# Altium footprint library Diode_SS34-E3_9AT.PcbLib: 3 footprints
Each footprint in its own frame and in the unit in brackets; x right, y up, seen from the top. Pads: shape width x height; smd on the part's side, far side on the other; paste and mask are expansions set on the pad; w line width, h text height; cw(c..) or ccw(c..) is an arc to the next point about the centre after c.
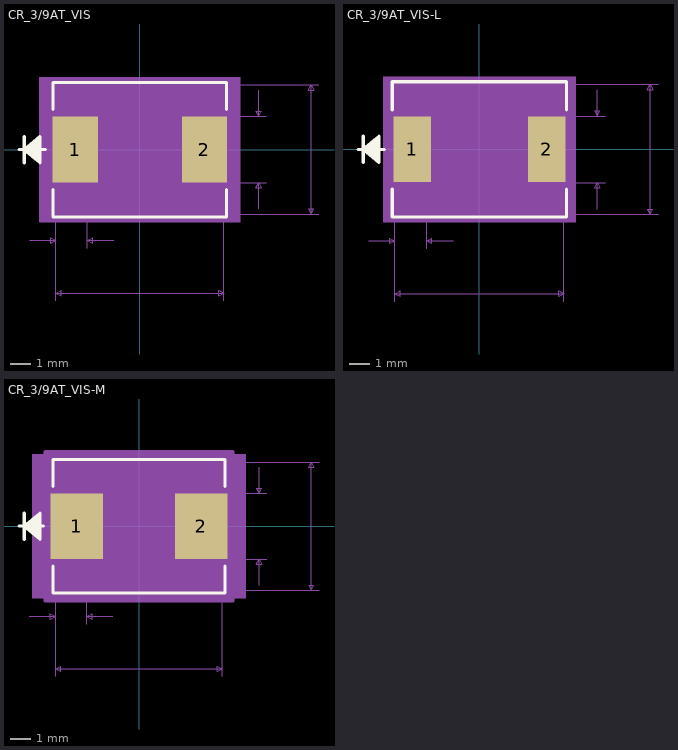
[diagram p0: the footprints below, top view; thin cyan lines are the x and y axes]

## CR_3/9AT_VIS [mil]
pads (2):
  rect 86x126 smd paste+0 mask+0: 1(-123,0) 2(123,0)
Top Overlay:
  lines w6: -230,0 -180,0 ; -220,-25 -220,25 ; -190,-20 -220,0 ; -190,-15 -220,0 ; -190,-10 -220,0 ; -190,-5 -220,0 ; -190,5 -220,0 ; -190,10 -220,0 ; -190,15 -220,0 ; -190,20 -220,0 ; -165,-76.1 -165,-128 165,-128 165,-76.1 ; -165,76.1 -165,128 165,128 165,76.1 ; -220,0 -190,-25 -190,25 -220,0
Mechanical 5:
  region: 191,-138 -191,-138 -191,138 191,138
Mechanical 7:
  lines w1: -210,-173 -160,-173 ; -160,-288 -160,0 -160,-188 ; -100,-188 -100,0 ; -50,-173 -100,-173 ; 160,-288 160,0 ; 176,-123 341,-123 ; 176,-63 241,-63 ; 176,63 241,63 ; 176,123 341,123 ; 226,-113 226,-63 ; 226,113 226,63 ; -160,-273 -150,-278 -150,-268 -160,-273 ; -160,-273 160,-273 ; -160,-173 -170,-178 -170,-168 -160,-173 ; -100,-173 -90,-178 -90,-168 -100,-173 ; 160,-273 150,-278 150,-268 160,-273 ; 226,-63 231,-73 221,-73 226,-63 ; 226,63 231,73 221,73 226,63 ; 326,-123 331,-113 321,-113 326,-123 ; 326,-123 326,123 ; 326,123 331,113 321,113 326,123
  text "0.06in/1.524mm" at -217.5,-218 h25
  text "0.32in/8.128mm" at -87.5,-318 h25
  text "0.246in/6.248mm" at 346,-12.5 h25
  text "0.126in/3.2mm" at 246,-12.5 h25
  text "Alt 2 Padstyle: OX90Y60D30P" at -337.5,-548 h50
  text "Alt 1 Padstyle: OX60Y90D30P" at -337.5,-473 h50
  text "Default Padstyle: RX86Y126D0T" at -362.5,-398 h50
Mechanical 13:
  lines w1: -230,0 -180,0 ; -220,-25 -220,25 ; -190,-20 -220,0 ; -190,-15 -220,0 ; -190,-10 -220,0 ; -190,-5 -220,0 ; -190,5 -220,0 ; -190,10 -220,0 ; -190,15 -220,0 ; -190,20 -220,0 ; -220,0 -190,-25 -190,25 -220,0 ; -160,-123 -160,123 160,123 160,-123 -160,-123
Mechanical 15:
  region: -170,-73 -176,-73 -176,73 -170,73 -170,133 170,133 170,73 176,73 176,-73 170,-73 170,-133 -170,-133
  lines w6: -176,-73 -170,-73 -170,-133 170,-133 170,-73 176,-73 176,73 170,73 170,133 -170,133 -170,73 -176,73 -176,-73
3D body "CR_39AT_VIS.step": height 105, standoff 0, extent -160,-122.99 160,122.99
3D body: height 10, standoff 0, extent 0,0 10,10

## CR_3/9AT_VIS-L [mil]
pads (2):
  rect 71x124 smd paste+0 mask+0: 1(-127.5,0) 2(127.5,0)
Top Overlay:
  lines w6: -230,0 -180,0 ; -220,-25 -220,25 ; -190,-20 -220,0 ; -190,-15 -220,0 ; -190,-10 -220,0 ; -190,-5 -220,0 ; -190,5 -220,0 ; -190,10 -220,0 ; -190,15 -220,0 ; -190,20 -220,0 ; -165,-74.95 -165,-128 165,-128 165,-74.95 ; -165,74.95 -165,128 165,128 165,74.95 ; -220,0 -190,-25 -190,25 -220,0
Mechanical 5:
  region: 182,-138 -182,-138 -182,138 182,138
Mechanical 7:
  lines w1: -210,-173 -160,-173 ; -160,-288 -160,0 -160,-188 ; -100,-188 -100,0 ; -50,-173 -100,-173 ; 160,-288 160,0 ; 173,-123 338,-123 ; 173,-63 238,-63 ; 173,63 238,63 ; 173,123 338,123 ; 223,-113 223,-63 ; 223,113 223,63 ; -160,-273 -150,-278 -150,-268 -160,-273 ; -160,-273 160,-273 ; -160,-173 -170,-178 -170,-168 -160,-173 ; -100,-173 -90,-178 -90,-168 -100,-173 ; 160,-273 150,-278 150,-268 160,-273 ; 223,-63 228,-73 218,-73 223,-63 ; 223,63 228,73 218,73 223,63 ; 323,-123 328,-113 318,-113 323,-123 ; 323,-123 323,123 ; 323,123 328,113 318,113 323,123
  text "0.06in/1.524mm" at -217.5,-218 h25
  text "0.32in/8.128mm" at -87.5,-318 h25
  text "0.246in/6.248mm" at 343,-12.5 h25
  text "0.126in/3.2mm" at 243,-12.5 h25
  text "Alt 2 Padstyle: OX90Y60D30P" at -337.5,-548 h50
  text "Alt 1 Padstyle: OX60Y90D30P" at -337.5,-473 h50
  text "Default Padstyle: RX71Y124D0T" at -362.5,-398 h50
Mechanical 13:
  lines w1: -230,0 -180,0 ; -220,-25 -220,25 ; -190,-20 -220,0 ; -190,-15 -220,0 ; -190,-10 -220,0 ; -190,-5 -220,0 ; -190,5 -220,0 ; -190,10 -220,0 ; -190,15 -220,0 ; -190,20 -220,0 ; -220,0 -190,-25 -190,25 -220,0 ; -160,-123 -160,123 160,123 160,-123 -160,-123
Mechanical 15:
  region: -164,-67 -167,-67 -167,67 -164,67 -164,127 164,127 164,67 167,67 167,-67 164,-67 164,-127 -164,-127
  lines w6: -167,-67 -164,-67 -164,-127 164,-127 164,-67 167,-67 167,67 164,67 164,127 -164,127 -164,67 -167,67 -167,-67
3D body: height 10, standoff 0, extent 0,0 10,10

## CR_3/9AT_VIS-M [mil]
pads (2):
  rect 101x126 smd paste+0 mask+0: 1(-119.5,0) 2(119.5,0)
Top Overlay:
  lines w6: -230,0 -183.1,0 ; -220,-25 -220,25 ; -190,-20 -220,0 ; -190,-15 -220,0 ; -190,-10 -220,0 ; -190,-5 -220,0 ; -190,5 -220,0 ; -190,10 -220,0 ; -190,15 -220,0 ; -190,20 -220,0 ; -165,-76.1 -165,-128 165,-128 165,-76.1 ; -165,76.1 -165,128 165,128 165,76.1 ; -220,0 -190,25 -190,-25 -220,0
Mechanical 5:
  region: 205,-138 -205,-138 -205,138 205,138
Mechanical 7:
  lines w1: -210,-173 -160,-173 ; -160,-288 -160,0 -160,-188 ; -100,-188 -100,0 ; -50,-173 -100,-173 ; 160,-288 160,0 ; 180,-123 345,-123 ; 180,-63 245,-63 ; 180,63 245,63 ; 180,123 345,123 ; 230,-113 230,-63 ; 230,113 230,63 ; -160,-273 160,-273 ; -160,-273 -150,-268 -150,-278 -160,-273 ; -160,-173 -170,-168 -170,-178 -160,-173 ; -100,-173 -90,-168 -90,-178 -100,-173 ; 160,-273 150,-268 150,-278 160,-273 ; 230,-63 225,-73 235,-73 230,-63 ; 230,63 225,73 235,73 230,63 ; 330,-123 330,123 ; 330,-123 325,-113 335,-113 330,-123 ; 330,123 325,113 335,113 330,123
  text "Default Padstyle: RX101Y126D0T" at -375,-398 h50
  text "Alt 1 Padstyle: OX60Y90D30P" at -337.5,-473 h50
  text "Alt 2 Padstyle: OX90Y60D30P" at -337.5,-548 h50
  text "0.126in/3.2mm" at 250,-12.5 h25
  text "0.246in/6.248mm" at 350,-12.5 h25
  text "0.32in/8.128mm" at -87.5,-318 h25
  text "0.06in/1.524mm" at -217.5,-218 h25
Mechanical 13:
  lines w1: -230,0 -180,0 ; -220,-25 -220,25 ; -190,-20 -220,0 ; -190,-15 -220,0 ; -190,-10 -220,0 ; -190,-5 -220,0 ; -190,5 -220,0 ; -190,10 -220,0 ; -190,15 -220,0 ; -190,20 -220,0 ; -220,0 -190,25 -190,-25 -220,0 ; -160,-123 160,-123 160,123 -160,123 -160,-123
Mechanical 15:
  region: -180,-83 -190,-83 -190,83 -180,83 -180,143 180,143 180,83 190,83 190,-83 180,-83 180,-143 -180,-143
  lines w6: -190,-83 -190,83 -180,83 -180,143 180,143 180,83 190,83 190,-83 180,-83 180,-143 -180,-143 -180,-83 -190,-83
3D body: height 10, standoff 0, extent 0,0 10,10